# Altium footprint library Male Headers Single Row.PcbLib: 19 footprints (part 1 of 2)
Each footprint in its own frame and in the unit in brackets; x right, y up, seen from the top. Pads: shape width x height; smd on the part's side, far side on the other; paste and mask are expansions set on the pad; w line width, h text height; cw(c..) or ccw(c..) is an arc to the next point about the centre after c.
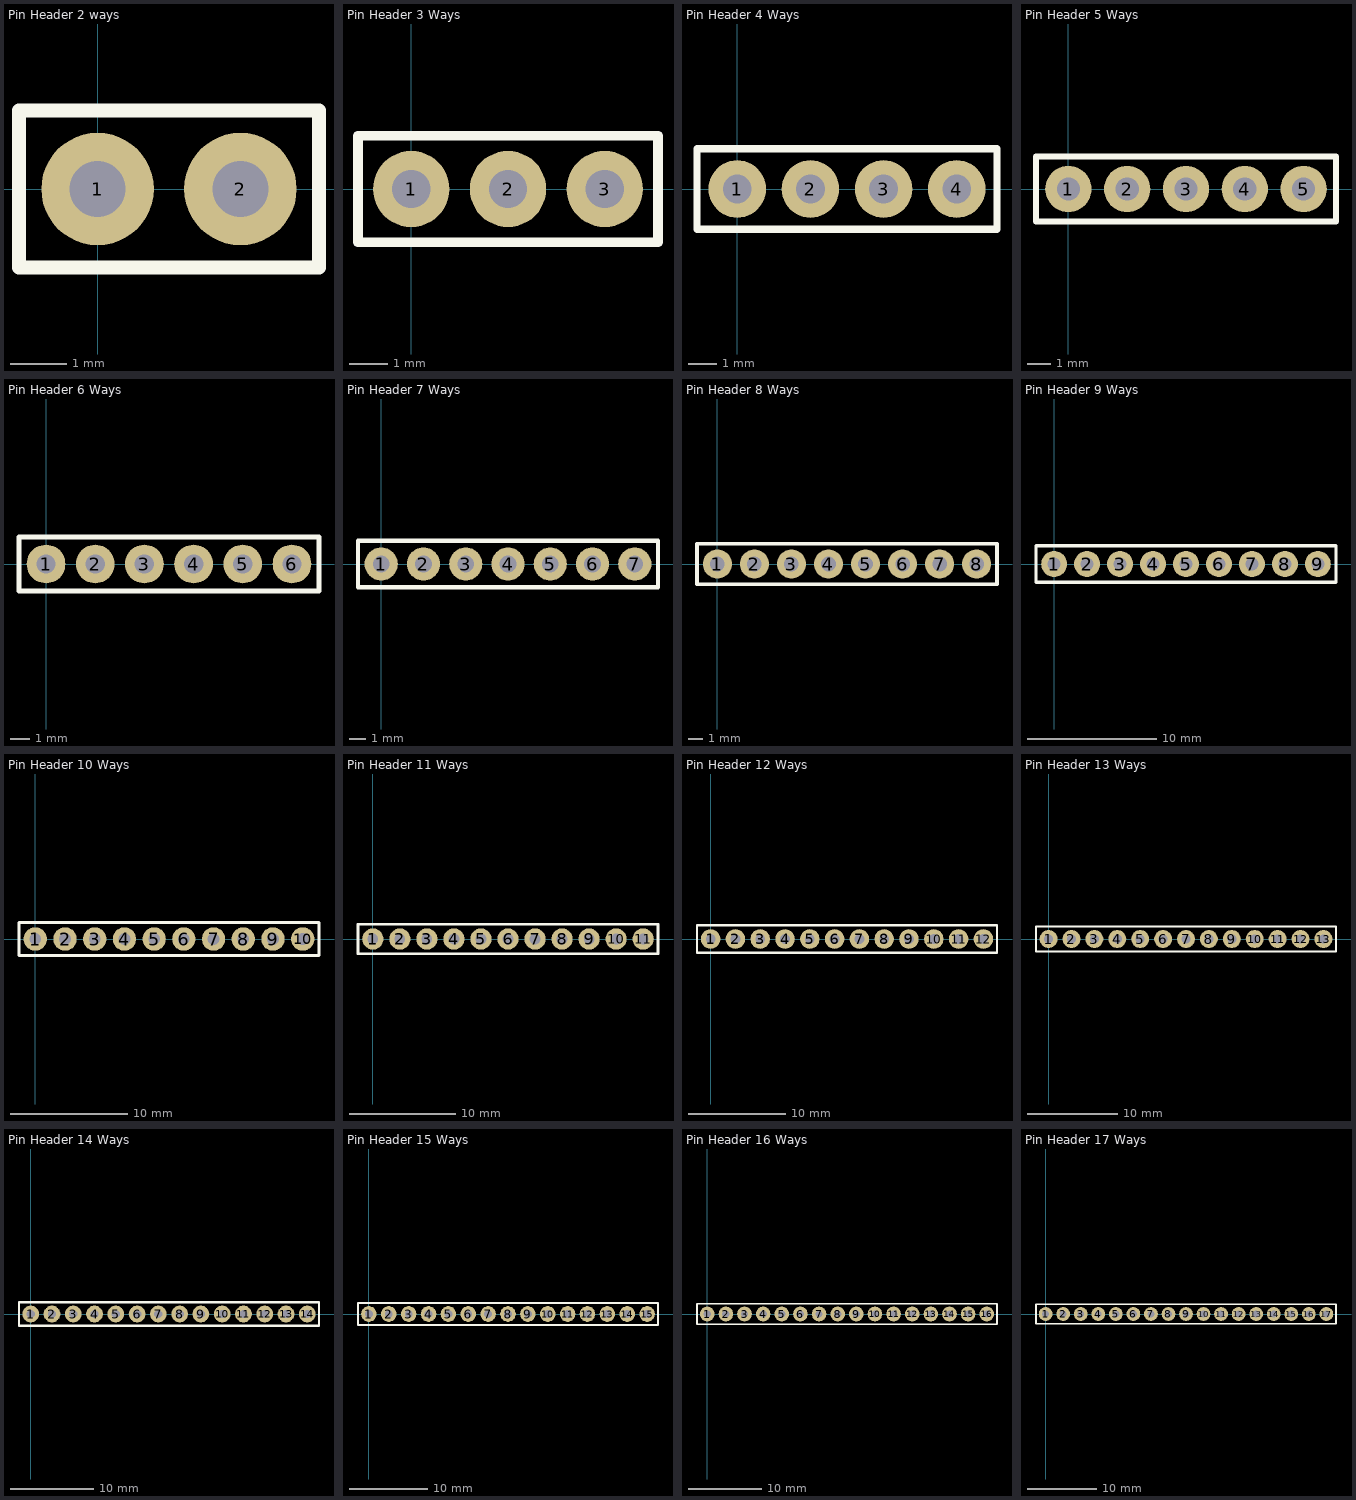
[diagram p0: the footprints below, top view; thin cyan lines are the x and y axes]

## Pin Header 2 ways [mm] "Connector Header 2 ways PTH 0.100\" (2.54mm)"
pads (2):
  round 2 hole 1: 1(0,0) 2(2.54,0)
Top Overlay:
  lines w0.254: -1.397,-1.397 3.937,-1.397 3.937,1.397 -1.397,1.397 -1.397,-1.397
3D body "pin strip 2 ways.step": height 10.1, standoff -1.5, extent -1.27,-1.27 3.81,1.27

## Pin Header 3 Ways [mm] "Connector Header 3 ways PTH 0.100\" (2.54mm)"
pads (3):
  round 2 hole 1: 1(0,0) 2(2.54,0) 3(5.08,0)
Top Overlay:
  lines w0.254: -1.397,-1.397 -1.397,1.397 6.477,1.397 6.477,-1.397 -1.397,-1.397
3D body "pin strip 3 ways.step": height 10.11, standoff -1.49, extent -1.27,-1.27 6.35,1.27

## Pin Header 4 Ways [mm] "Connector Header 4 ways PTH 0.100\" (2.54mm)"
pads (4):
  round 2 hole 1: 1(0,0) 2(2.54,0) 3(5.08,0) 4(7.62,0)
Top Overlay:
  lines w0.254: -1.397,-1.397 -1.397,1.397 9.017,1.397 9.017,-1.397 -1.397,-1.397
3D body "pin header 4 ways.step": height 10.11, standoff -1.49, extent -1.27,-1.27 8.89,1.27

## Pin Header 5 Ways [mm] "Connector Header 5 ways PTH 0.100\" (2.54mm)"
pads (5):
  round 2 hole 1: 1(0,0) 2(2.54,0) 3(5.08,0) 4(7.62,0) 5(10.16,0)
Top Overlay:
  lines w0.254: -1.397,-1.397 -1.397,1.397 11.557,1.397 11.557,-1.397 -1.397,-1.397
3D body "pin strip 5 ways.step": height 10.11, standoff -1.49, extent -1.27,-1.27 11.43,1.27

## Pin Header 6 Ways [mm] "Connector Header 6 ways PTH 0.100\" (2.54mm)"
pads (6):
  round 2 hole 1: 1(0,0) 2(2.54,0) 3(5.08,0) 4(7.62,0) 5(10.16,0) 6(12.7,0)
Top Overlay:
  lines w0.254: -1.397,-1.397 14.097,-1.397 14.097,1.397 -1.397,1.397 -1.397,-1.397
3D body "pin strip 6 ways.step": height 10.11, standoff -1.49, extent -1.27,-1.27 13.97,1.27

## Pin Header 7 Ways [mm] "Connector Header 7 ways PTH 0.100\" (2.54mm)"
pads (7):
  round 2 hole 1: 1(0,0) 2(2.54,0) 3(5.08,0) 4(7.62,0) 5(10.16,0) 6(12.7,0) 7(15.24,0)
Top Overlay:
  lines w0.254: -1.397,-1.397 -1.397,1.397 16.637,1.397 16.637,-1.397 -1.397,-1.397
3D body "pin strip 7 ways.step": height 10.11, standoff -1.49, extent -1.27,-1.27 16.51,1.27

## Pin Header 8 Ways [mm] "Connector Header 8 ways PTH 0.100\" (2.54mm)"
pads (8):
  round 2 hole 1: 1(0,0) 2(2.54,0) 3(5.08,0) 4(7.62,0) 5(10.16,0) 6(12.7,0) 7(15.24,0) 8(17.78,0)
Top Overlay:
  lines w0.254: -1.397,-1.397 -1.397,1.397 19.177,1.397 19.177,-1.397 -1.397,-1.397
3D body "pin strip 8 ways.step": height 10.11, standoff -1.49, extent -1.27,-1.27 19.05,1.27

## Pin Header 9 Ways [mm] "Connector Header 9 ways PTH 0.100\" (2.54mm)"
pads (9):
  round 2 hole 1: 1(0,0) 2(2.54,0) 3(5.08,0) 4(7.62,0) 5(10.16,0) 6(12.7,0) 7(15.24,0) 8(17.78,0) 9(20.32,0)
Top Overlay:
  lines w0.254: -1.397,-1.397 -1.397,1.397 21.717,1.397 21.717,-1.397 -1.397,-1.397
3D body "pin strip 9 ways.step": height 10.11, standoff -1.49, extent -1.27,-1.27 21.59,1.27

## Pin Header 10 Ways [mm] "Connector Header 10 ways PTH 0.100\" (2.54mm)"
pads (10):
  round 2 hole 1: 1(0,0) 2(2.54,0) 3(5.08,0) 4(7.62,0) 5(10.16,0) 6(12.7,0) 7(15.24,0) 8(17.78,0) 9(20.32,0) 10(22.86,0)
Top Overlay:
  lines w0.254: -1.397,-1.397 24.257,-1.397 24.257,1.397 -1.397,1.397 -1.397,-1.397
3D body "pin strip 10 ways.step": height 10.11, standoff -1.49, extent -1.27,-1.27 24.13,1.27

## Pin Header 11 Ways [mm] "Connector Header 11 ways PTH 0.100\" (2.54mm)"
pads (11):
  round 2 hole 1: 1(0,0) 2(2.54,0) 3(5.08,0) 4(7.62,0) 5(10.16,0) 6(12.7,0) 7(15.24,0) 8(17.78,0) 9(20.32,0) 10(22.86,0) 11(25.4,0)
Top Overlay:
  lines w0.254: -1.397,-1.397 26.797,-1.397 26.797,1.397 -1.397,1.397 -1.397,-1.397
3D body "pin strip 11 ways.step": height 10.11, standoff -1.49, extent -1.27,-1.27 26.67,1.27

## Pin Header 12 Ways [mm] "Connector Header 12 ways PTH 0.100\" (2.54mm)"
pads (12):
  round 2 hole 1: 1(0,0) 2(2.54,0) 3(5.08,0) 4(7.62,0) 5(10.16,0) 6(12.7,0) 7(15.24,0) 8(17.78,0) 9(20.32,0) 10(22.86,0) 11(25.4,0) 12(27.94,0)
Top Overlay:
  lines w0.254: -1.397,-1.397 -1.397,1.397 29.337,1.397 29.337,-1.397 -1.397,-1.397
3D body "pin strip 12 ways.step": height 10.11, standoff -1.49, extent -1.27,-1.016 29.21,1.524

## Pin Header 13 Ways [mm] "Connector Header 13 ways PTH 0.100\" (2.54mm)"
pads (13):
  round 2 hole 1: 1(0,0) 2(2.54,0) 3(5.08,0) 4(7.62,0) 5(10.16,0) 6(12.7,0) 7(15.24,0) 8(17.78,0) 9(20.32,0) 10(22.86,0) 11(25.4,0) 12(27.94,0) 13(30.48,0)
Top Overlay:
  lines w0.254: -1.397,-1.397 31.877,-1.397 31.877,1.397 -1.397,1.397 -1.397,-1.397
3D body "pin strip 13 ways.step": height 10.11, standoff -1.49, extent -1.27,-1.27 31.75,1.27

## Pin Header 14 Ways [mm] "Connector Header 14 ways PTH 0.100\" (2.54mm)"
pads (14):
  round 2 hole 1: 1(0,0) 2(2.54,0) 3(5.08,0) 4(7.62,0) 5(10.16,0) 6(12.7,0) 7(15.24,0) 8(17.78,0) 9(20.32,0) 10(22.86,0) 11(25.4,0) 12(27.94,0) 13(30.48,0) 14(33.02,0)
Top Overlay:
  lines w0.254: -1.397,-1.397 -1.397,1.397 34.417,1.397 34.417,-1.397 -1.397,-1.397
3D body "pin strip 14 ways.step": height 10.11, standoff -1.49, extent -1.27,-1.27 34.29,1.27

## Pin Header 15 Ways [mm] "Connector Header 15 ways PTH 0.100\" (2.54mm)"
pads (15):
  round 2 hole 1: 1(0,0) 2(2.54,0) 3(5.08,0) 4(7.62,0) 5(10.16,0) 6(12.7,0) 7(15.24,0) 8(17.78,0) 9(20.32,0) 10(22.86,0) 11(25.4,0) 12(27.94,0) 13(30.48,0) 14(33.02,0) 15(35.56,0)
Top Overlay:
  lines w0.254: -1.397,-1.397 36.957,-1.397 36.957,1.397 -1.397,1.397 -1.397,-1.397
3D body "pin strip 15 ways.step": height 10.11, standoff -1.49, extent -1.27,-1.27 36.83,1.27

## Pin Header 16 Ways [mm] "Connector Header 16 ways PTH 0.100\" (2.54mm)"
pads (16):
  round 2 hole 1: 1(0,0) 2(2.54,0) 3(5.08,0) 4(7.62,0) 5(10.16,0) 6(12.7,0) 7(15.24,0) 8(17.78,0) 9(20.32,0) 10(22.86,0) 11(25.4,0) 12(27.94,0) 13(30.48,0) 14(33.02,0) 15(35.56,0) 16(38.1,0)
Top Overlay:
  lines w0.254: -1.397,-1.397 -1.397,1.397 39.497,1.397 39.497,-1.397 -1.397,-1.397
3D body "pin strip 16 ways.step": height 10.11, standoff -1.49, extent -1.27,-1.27 39.37,1.27

## Pin Header 17 Ways [mm] "Connector Header 17 ways PTH 0.100\" (2.54mm)"
pads (17):
  round 2 hole 1: 1(0,0) 2(2.54,0) 3(5.08,0) 4(7.62,0) 5(10.16,0) 6(12.7,0) 7(15.24,0) 8(17.78,0) 9(20.32,0) 10(22.86,0) 11(25.4,0) 12(27.94,0) 13(30.48,0) 14(33.02,0) 15(35.56,0) 16(38.1,0) 17(40.64,0)
Top Overlay:
  lines w0.254: -1.397,-1.397 -1.397,1.397 42.037,1.397 42.037,-1.397 -1.397,-1.397
3D body "pin strip 17 ways.step": height 10.11, standoff -1.49, extent -1.27,-1.27 41.91,1.27